# EAGLE library part CON-MOLEX_47491-0001 (library toyotune)
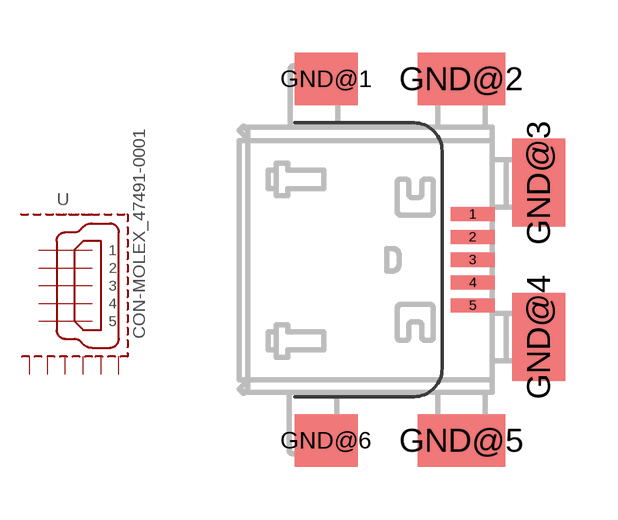
[diagram p21: symbol with the pads of CON-MOLEX_47491-0001; footprint CON-MOLEX_47491-0001]

Designator prefix -

## CON-MOLEX_47491-0001  [CON-MOLEX_47491-0001]
1  1  in
2  2  in
3  3  in
4  4  in
5  5  in
GND@1  GND1
GND@2  GND2
GND@3  GND3
GND@4  GND4
GND@5  GND5
GND@6  GND6

## Footprint CON-MOLEX_47491-0001 (pad centres in mm)
smd 1.25 x 0.4: 1 2.475,1.3; 2 2.475,0.65; 3 2.475,0; 4 2.475,-0.65; 5 2.475,-1.3
smd 1.8 x 1.5: GND@1 -1.7,5.15; GND@6 -1.7,-5.15
smd 2.5 x 1.5: GND@2 2.15,5.15; GND@5 2.15,-5.15
smd 1.5 x 2.5: GND@3 4.35,2.2; GND@4 4.35,-2.2